# EAGLE library part TM4C129ENCPDTI3R (library Microcontroller)
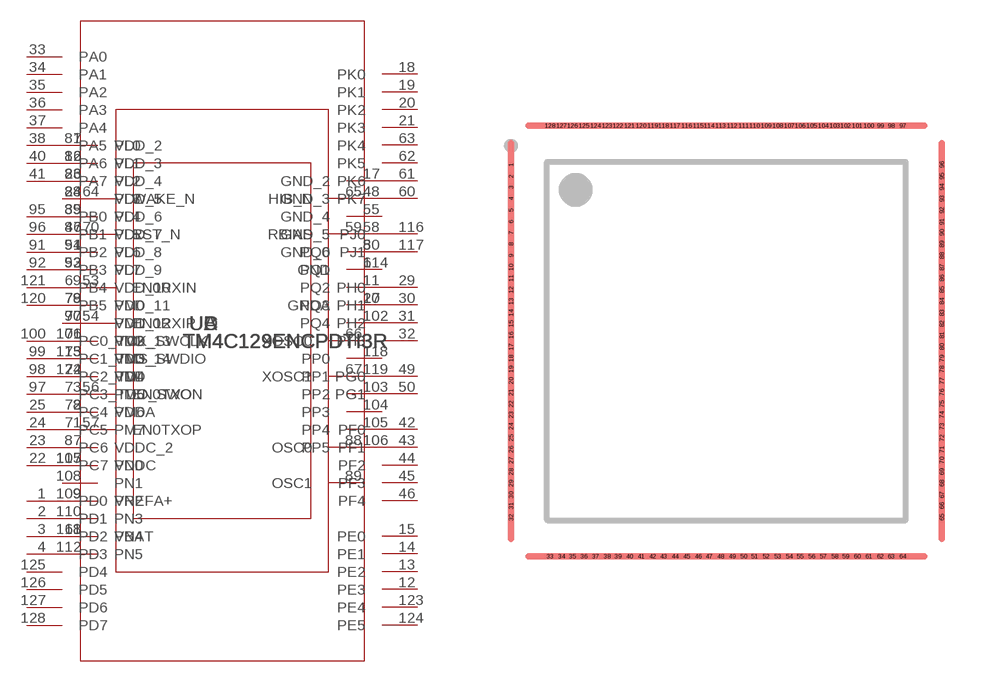
[diagram p0: symbol with the pads of PDT0128A_N; footprint PDT0128A_N]

Designator prefix U; gates A=TM4C129ENCPDTPDT_A B=TM4C129ENCPDTPDT_B C=TM4C129ENCPDTPDT_C D=TM4C129ENCPDTPDT_D

## TM4C129ENCPDTI3R (ALTERNATEPARTNUMBER: TM4C129ENCPDTI3; APPLICATION_BUILDNUMBER: *; COMPTYPE: IC; MANUFACTURER: Texas Instruments; MOUNTTYPE: SMT; PACKAGEREFERENCE: PDT0128A; PARTNUMBER: TM4C129ENCPDTI3R; PIN_COUNT: 128; REFDES: RefDes; ROHS: Y; TYPE: TYPE; VALUE: Value)  [PDT0128A_N]
1  A:PD0
2  A:PD1
3  A:PD2
4  A:PD3
5  B:PQ0
6  B:PQ1
7  D:VDD_2  pwr
8  D:VDDA  pwr
9  D:VREFA+  pwr
10  D:GNDA  pwr
11  B:PQ2
12  A:PE3
13  A:PE2
14  A:PE1
15  A:PE0
16  D:VDD_3  pwr
17  D:GND_2  pwr
18  A:PK0
19  A:PK1
20  A:PK2
21  A:PK3
22  A:PC7
23  A:PC6
24  A:PC5
25  A:PC4
26  D:VDD_4  pwr
27  B:PQ3
28  D:VDD_5  pwr
29  A:PH0
30  A:PH1
31  A:PH2
32  A:PH3
33  A:PA0
34  A:PA1
35  A:PA2
36  A:PA3
37  A:PA4
38  A:PA5
39  D:VDD_6  pwr
40  A:PA6
41  A:PA7
42  A:PF0
43  A:PF1
44  A:PF2
45  A:PF3
46  A:PF4
47  D:VDD_7  pwr
48  D:GND_3  pwr
49  A:PG0
50  A:PG1
51  D:VDD_8  pwr
52  D:VDD_9  pwr
53  C:EN0RXIN
54  C:EN0RXIP
55  D:GND_4  pwr
56  C:EN0TXON
57  C:EN0TXOP
58  D:GND_5  pwr
59  C:RBIAS  out
60  A:PK7
61  A:PK6
62  A:PK5
63  A:PK4
64  C:WAKE_N  in
65  C:HIB_N  out
66  C:XOSC0  in
67  C:XOSC1  out
68  D:VBAT  pwr
69  D:VDD_10  pwr
70  C:RST_N  in
71  B:PM7
72  B:PM6
73  B:PM5
74  B:PM4
75  B:PM3
76  B:PM2
77  B:PM1
78  B:PM0
79  D:VDD_11  pwr
80  D:GND_6  pwr
81  B:PL0
82  B:PL1
83  B:PL2
84  B:PL3
85  B:PL4
86  B:PL5
87  D:VDDC_2  pwr
88  C:OSC0  in
89  C:OSC1  out
90  D:VDD_12  pwr
91  A:PB2
92  A:PB3
93  B:PL7
94  B:PL6
95  A:PB0
96  A:PB1
97  A:PC3_TDO_SWO
98  A:PC2_TDI
99  A:PC1_TMS_SWDIO
100  A:PC0_TCK_SWCLK
101  D:VDD_13  pwr
102  B:PQ4
103  B:PP2
104  B:PP3
105  B:PP4
106  B:PP5
107  B:PN0
108  B:PN1
109  B:PN2
110  B:PN3
111  B:PN4
112  B:PN5
113  D:VDD_14  pwr
114  D:GND  pwr
115  D:VDDC  pwr
116  A:PJ0
117  A:PJ1
118  B:PP0
119  B:PP1
120  A:PB5
121  A:PB4
122  D:VDD  pwr
123  A:PE4
124  A:PE5
125  A:PD4
126  A:PD5
127  A:PD6
128  A:PD7

## Footprint PDT0128A_N (pad centres in mm)
smd 0.229 x 1.753: 1 -7.569,6.198; 2 -7.569,5.791; 3 -7.569,5.41; 4 -7.569,5.004; 5 -7.569,4.597; 6 -7.569,4.191; 7 -7.569,3.81; 8 -7.569,3.404; 9 -7.569,2.997; 10 -7.569,2.591; 11 -7.569,2.21; 12 -7.569,1.803; 13 -7.569,1.397; 14 -7.569,0.991; 15 -7.569,0.61; 16 -7.569,0.203; 17 -7.569,-0.203; 18 -7.569,-0.61; 19 -7.569,-0.991; 20 -7.569,-1.397; 21 -7.569,-1.803; 22 -7.569,-2.21; 23 -7.569,-2.591; 24 -7.569,-2.997; 25 -7.569,-3.404; 26 -7.569,-3.81; 27 -7.569,-4.191; 28 -7.569,-4.597; 29 -7.569,-5.004; 30 -7.569,-5.41; 31 -7.569,-5.791; 32 -7.569,-6.198; 65 7.569,-6.198; 66 7.569,-5.791; 67 7.569,-5.41; 68 7.569,-5.004; 69 7.569,-4.597; 70 7.569,-4.191; 71 7.569,-3.81; 72 7.569,-3.404; 73 7.569,-2.997; 74 7.569,-2.591; 75 7.569,-2.21; 76 7.569,-1.803; 77 7.569,-1.397; 78 7.569,-0.991; 79 7.569,-0.61; 80 7.569,-0.203; 81 7.569,0.203; 82 7.569,0.61; 83 7.569,0.991; 84 7.569,1.397; 85 7.569,1.803; 86 7.569,2.21; 87 7.569,2.591; 88 7.569,2.997; 89 7.569,3.404; 90 7.569,3.81; 91 7.569,4.191; 92 7.569,4.597; 93 7.569,5.004; 94 7.569,5.41; 95 7.569,5.791; 96 7.569,6.198
smd 1.753 x 0.229: 33 -6.198,-7.569; 34 -5.791,-7.569; 35 -5.41,-7.569; 36 -5.004,-7.569; 37 -4.597,-7.569; 38 -4.191,-7.569; 39 -3.81,-7.569; 40 -3.404,-7.569; 41 -2.997,-7.569; 42 -2.591,-7.569; 43 -2.21,-7.569; 44 -1.803,-7.569; 45 -1.397,-7.569; 46 -0.991,-7.569; 47 -0.61,-7.569; 48 -0.203,-7.569; 49 0.203,-7.569; 50 0.61,-7.569; 51 0.991,-7.569; 52 1.397,-7.569; 53 1.803,-7.569; 54 2.21,-7.569; 55 2.591,-7.569; 56 2.997,-7.569; 57 3.404,-7.569; 58 3.81,-7.569; 59 4.191,-7.569; 60 4.597,-7.569; 61 5.004,-7.569; 62 5.41,-7.569; 63 5.791,-7.569; 64 6.198,-7.569; 97 6.198,7.569; 98 5.791,7.569; 99 5.41,7.569; 100 5.004,7.569; 101 4.597,7.569; 102 4.191,7.569; 103 3.81,7.569; 104 3.404,7.569; 105 2.997,7.569; 106 2.591,7.569; 107 2.21,7.569; 108 1.803,7.569; 109 1.397,7.569; 110 0.991,7.569; 111 0.61,7.569; 112 0.203,7.569; 113 -0.203,7.569; 114 -0.61,7.569; 115 -0.991,7.569; 116 -1.397,7.569; 117 -1.803,7.569; 118 -2.21,7.569; 119 -2.591,7.569; 120 -2.997,7.569; 121 -3.404,7.569; 122 -3.81,7.569; 123 -4.191,7.569; 124 -4.597,7.569; 125 -5.004,7.569; 126 -5.41,7.569; 127 -5.791,7.569; 128 -6.198,7.569